# Altium schematic symbol library vias.SchLib: 1 symbol
Pins are listed as number, name and electrical type; pins without a type are passive.

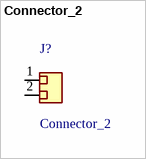
[diagram p0: symbol Connector_2]

## Connector_2
designator J?
Generic two-circuit connector
pins: 1 Passive, 2 Passive